# Altium footprint library VSO-56.PcbLib: 1 footprints
Each footprint in its own frame and in the unit in brackets; x right, y up, seen from the top. Pads: shape width x height; smd on the part's side, far side on the other; paste and mask are expansions set on the pad; w line width, h text height; cw(c..) or ccw(c..) is an arc to the next point about the centre after c.
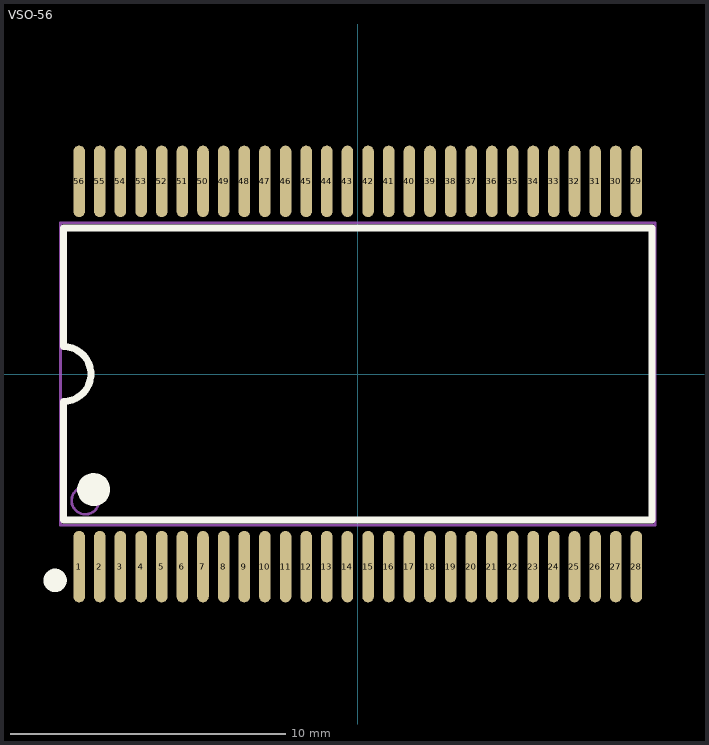
[diagram p0: the footprint, top view; thin cyan lines are the x and y axes]

## VSO-56 [mm]
pads (56):
  oval 0.42x2.6 smd: 1(-10.125,-7) 2(-9.375,-7) 3(-8.625,-7) 4(-7.875,-7) 5(-7.125,-7) 6(-6.375,-7) 7(-5.625,-7) 8(-4.875,-7) 9(-4.125,-7) 10(-3.375,-7) 11(-2.625,-7) 12(-1.875,-7) 13(-1.125,-7) 14(-0.375,-7) 15(0.375,-7) 16(1.125,-7) 17(1.875,-7) 18(2.625,-7) 19(3.375,-7) 20(4.125,-7) 21(4.875,-7) 22(5.625,-7) 23(6.375,-7) 24(7.125,-7) 25(7.875,-7) 26(8.625,-7) 27(9.375,-7) 28(10.125,-7) 29(10.125,7) 30(9.375,7) 31(8.625,7) 32(7.875,7) 33(7.125,7) 34(6.375,7) 35(5.625,7) 36(4.875,7) 37(4.125,7) 38(3.375,7) 39(2.625,7) 40(1.875,7) 41(1.125,7) 42(0.375,7) 43(-0.375,7) 44(-1.125,7) 45(-1.875,7) 46(-2.625,7) 47(-3.375,7) 48(-4.125,7) 49(-4.875,7) 50(-5.625,7) 51(-6.375,7) 52(-7.125,7) 53(-7.875,7) 54(-8.625,7) 55(-9.375,7) 56(-10.125,7)
Top Overlay:
  circle w0.6: c-9.6,-4.2 r0.3
  circle w0.45: c-11,-7.5 r0.2
  lines w0.254: -10.7,-5.3 10.7,-5.3 10.7,5.3 -10.7,5.3 -10.7,1 cw(c-10.7,0) -10.7,-1 -10.7,-5.3
Mechanical 13:
  circle w0.1: c-9.9,-4.6 r0.5
  lines w0.1: -10.8,-5.5 -10.8,5.5 10.8,5.5 10.8,-5.5 -10.8,-5.5